# Altium schematic symbol library Esperto.SchLib: 22 symbols
Pins are listed as number, name and electrical type; pins without a type are passive.

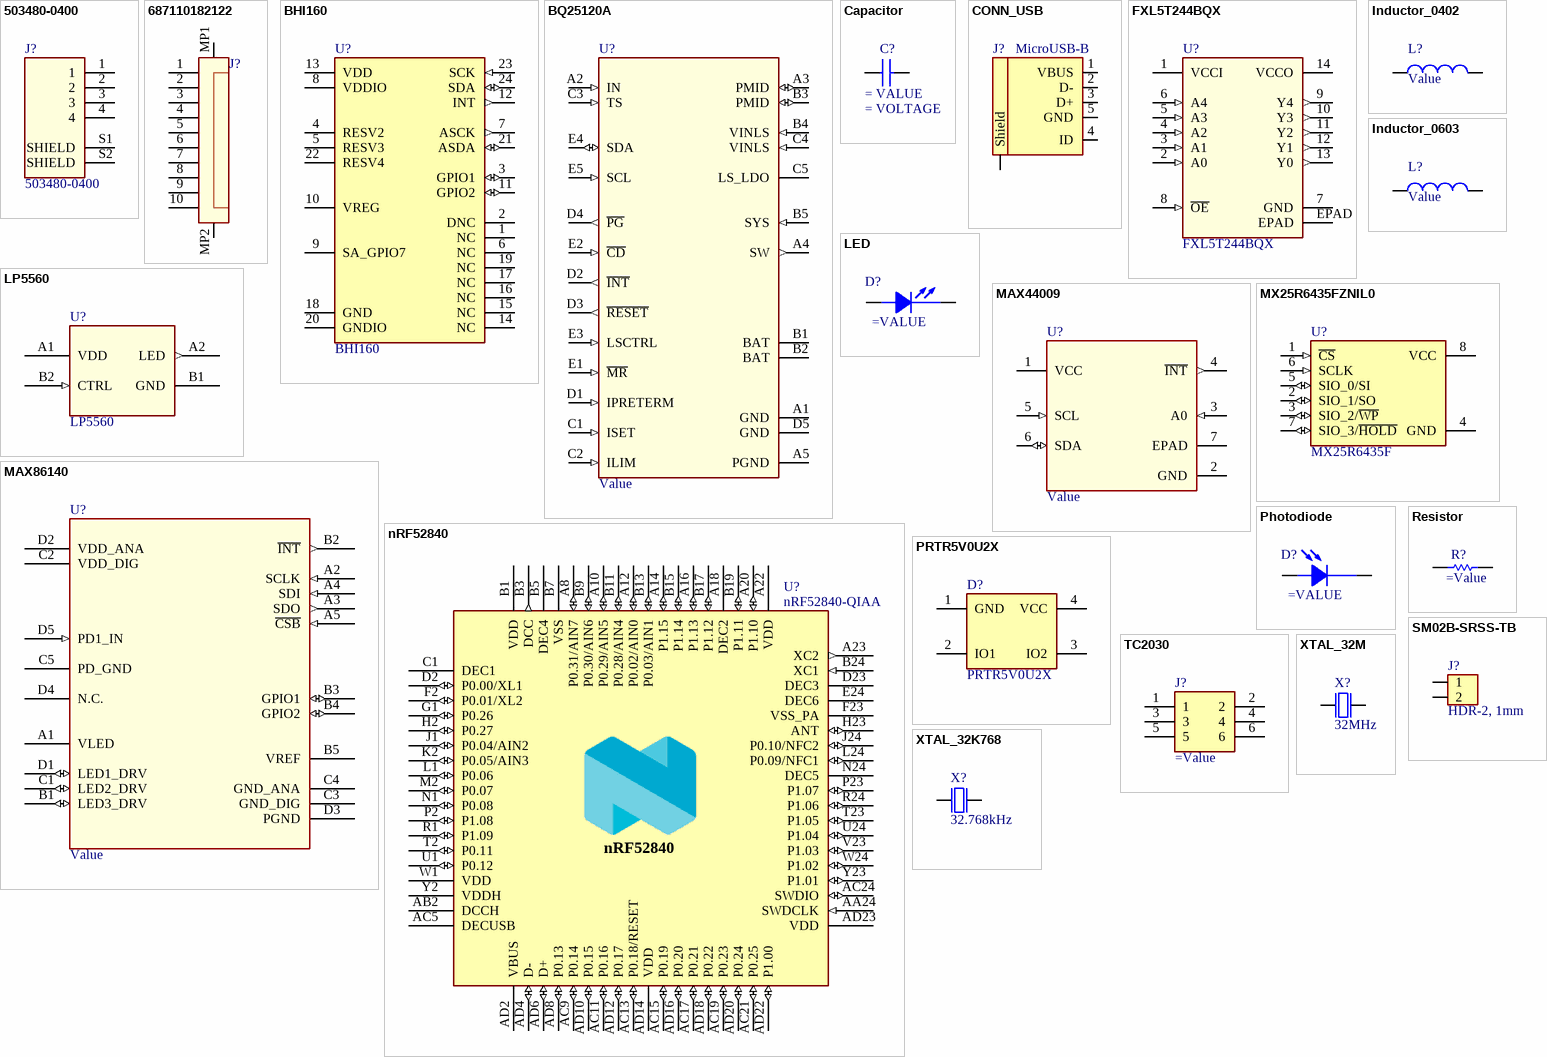
[diagram p0: symbols 503480-0400 to XTAL_32M]

## 503480-0400
designator J?
0.50mm Pitch Easy-On; MP: 5034800400; MF: Molex; Package: None; SnapEDA_Link: https://www.snapeda.com/parts/5034800400/Molex/view-part/?ref=snap; Digi-Key_Part_Number: WM1386CT-ND; Digi-Key_Purchase_URL: https://www.digikey.ca/product-detail/en/molex/5034800400/WM1386CT-ND/2356640?utm_source=snapeda&utm_medium=aggregator&utm_campaign=symbol; Value: *
footprint 503480-0400
pins: 1, 2, 3, 4, S1 SHIELD, S2 SHIELD

## 687110182122
designator J?
SMT ZIF Connectors WR-FPC, Horizontal, Back Locking Dual Contact, pitch 0.5 mm, 10 pins; Part Number: 687110182122; Rated Current: 0.5 A; Contact Resistance: 30 mOhm; Withstanding Voltage: 250 VAC; Working Voltage: 50 VAC; Pin Number: 10; Pitch: 0.5 mm; ComponentLink1Description: Manufacturer; ComponentLink1URL: http://www.we-online.de; ComponentLink2Description: Datasheet; ComponentLink2URL: https://katalog.we-online.de/em/datasheet/687110182122.pdf; Published Date: August 2018; Publisher: Wurth Elektronik; Operating Temperature: -55 to 85 degC; Packaging: Tape and Reel; Mounting Technology: SMT; Orientation: Horizontal; Contact Design: Back Locking Dual Contact
footprint 687110182122 (ZIF Connectors, Horizontal, Dual Contact Back Locking, pitch 0.5mm, 10p)
pins: 1, 2, 3, 4, 5, 6, 7, 8, 9, 10, MP1, MP2

## BHI160
designator U?
Ultra low-power sensor hub incl. integrated IMU; Part_Type: IC; Provided By: BOSCH; Package: *; ComponentLink1Description: *; ComponentLink1URL: *; Manufacturer_Part_Number: BHI160
footprint BHI160
pins: 1 NC, 2 DNC, 3 GPIO1 (io), 4 RESV2, 5 RESV3, 6 NC, 7 ASCK (out), 8 VDDIO (power), 9 SA_GPIO7, 10 VREG (power), 11 GPIO2 (io), 12 INT (out), 13 VDD (power), 14 NC, 15 NC, 16 NC, 17 NC, 18 GND (power), 19 NC, 20 GNDIO (power), 21 ASDA (io), 22 RESV4, 23 SCK (in), 24 SDA (io)

## BQ25120A
designator U?, comment Value
Battery Charge Management Solution; Manufacturer_Part_Number: BQ25120YFPR; Alternate_PartNumber: BQ25120YFPT; Vendor: Texas Instruments; Built_By: Texas_Instrument_Team; CompType: IC; Copyright: Copyright (C) 2018 Accelerated Designs. All rights reserved; RefDes: RefDes; Type: DEV; Value: Value; Application_BuildNumber: *; PartNumber: BQ25120YFPR; PackageReference: YFP0025BABD; MountType: SMT; RoHS: Y; Manufacturer: Texas Instruments
footprint BQ25120A
pins: A1 GND (power), A2 IN (in), A3 PMID (io), A4 SW (out), A5 PGND (power), B1 BAT (power), B2 BAT (power), B3 PMID (io), B4 VINLS (in), B5 SYS (in), C1 ISET (in), C2 ILIM (in), C3 TS (in), C4 VINLS (in), C5 LS_LDO (power), D1 IPRETERM (in), D2 ~{INT} (out), D3 ~{RESET} (out), D4 ~{PG} (out), D5 GND (power), E1 ~{MR} (in), E2 ~{CD} (in), E3 LSCTRL (in), E4 SDA (io), E5 SCL (in)

## Capacitor
designator C?
Capacitor; VALUE: = VALUE; VOLTAGE: = VOLTAGE
footprint CC_1005_0402_N (Chip Capacitor, 2-Leads, Body 1.0x0.5mm, IPC Medium Density)
pins: 1, 2

## CONN_USB
designator J?, comment MicroUSB-B
MicroUSB-B-SMT; Part Number: USB-Micro-B-RA-SMD-PiP; Manufacturer: Allen Creations Corp.; Manufacturer Part Number: AJU55-BS2111-L; 2nd source part number: 609-4616-1-ND; Part number IPS: 00000007790; Artikkelnr Noca: 55029020; Artikkelnr Simpro: N.A.; Datasheet: \\hizz\pro\app9717\Datasheet\connectores\Allen Creations Corp\AJU-211.pdf; Footprint Doc: USB-Micro-B-RA-SMD-PiP; LatestRevisionDate: 2016-04-21; Pin Count: 5; Publisher: Nordic Semiconductor; Published: 2014-10-07; Value: MicroUSB-B; Note: *; Supplier: Cabcon; Supplier part number: AJU55-BS2111-L; 2nd source Supplier: Digi-Key
footprint CONN_USB_MICRO_B
pins: 1 VBUS (power), 2 D-, 3 D+, 4 ID, 5 GND (power), 6 Shield (power)

## FXL5T244BQX
designator U?
Voltage Level Translator Unidirectional 1 Circuit 5 Channel; MF: ON Semiconductor; MP: FXLA108BQX; Package: DQFN-20 ON Semiconductor; Digi-Key_Purchase_URL: https://www.digikey.ca/product-detail/en/on-semiconductor/FXLA108BQX/FXLA108BQXCT-ND/2051660?utm_source=snapeda&utm_medium=aggregator&utm_campaign=symbol; Digi-Key_Part_Number: FXLA108BQXCT-ND; SnapEDA_Link: https://www.snapeda.com/parts/FXLA108BQX/ON%20Semiconductor/view-part/?ref=snap; Value: *
footprint FXL5T244BQX
pins: 1 VCCI (power), 2 A0 (in), 3 A1 (in), 4 A2 (in), 5 A3 (in), 6 A4 (in), 7 GND (power), 8 ~{OE} (in), 9 Y4 (out), 10 Y3 (out), 11 Y2 (out), 12 Y1 (out), 13 Y0 (out), 14 VCCO (power), EPAD (power)

## Inductor_0402
designator L?, comment Value
Inductor; VALUE: Value
footprint RC_1005_0402_N (Chip Resistor, 2-Leads, Body 1.0x0.5mm, IPC Medium Density)
pins: 1, 2

## Inductor_0603
designator L?, comment Value
Inductor; VALUE: Value
footprint IND_1608_0603_N (Chip Resistor, 2-Leads, Body 1.5x0.8mm, IPC Medium Density)
pins: 1, 2

## LED
designator D?
Single LED
footprint LED_GREEN_0603 (LED,Chip;1.60mm L X 0.80mm W X 0.45mm H)
pins: A Anode, K Cathode

## LP5560
designator U?
Programmable Single-LED Driver; Manufacturer_Part_Number: LP5522TM/NOPB; Vendor: Texas Instruments; Built_By: EMA_UL_Team; Copyright: Copyright (C) 2018 Accelerated Designs. All rights reserved; RefDes: RefDes; Type: DEV; Value: Value
footprint LP5560
pins: A1 VDD (power), A2 LED (out), B1 GND (power), B2 CTRL (in)

## MAX44009
designator U?, comment Value
Ambient Light Sensor; Manufacturer_Part_Number: MAX44009EDT+T; Built_By: EMA_UL_Team; Vendor: Maxim Integrated Products; Copyright: Copyright (C) 2018 Accelerated Designs. All rights reserved; RefDes: RefDes; Type: DEV; Value: Value
footprint MAX44009
pins: 1 VCC (power), 2 GND (power), 3 A0 (in), 4 ~{INT} (out), 5 SCL (in), 6 SDA (io), 7 EPAD (power)

## MAX86140
designator U?, comment Value
Optical Pulse Oximeter and / Heart-Rate Sensor; Manufacturer_Part_Number: MAX86140ENP+; Built_By: EMA_UL_Team; Vendor: Maxim Integrated Products; Copyright: Copyright (C) 2018 Accelerated Designs. All rights reserved; RefDes: RefDes; Type: DEV; Value: Value
footprint MAX86140
pins: A1 VLED, A2 SCLK (in), A3 SDO (out), A4 SDI (in), A5 ~{CSB} (in), B1 LED3_DRV (io), B2 ~{INT} (out), B3 GPIO1 (io), B4 GPIO2 (io), B5 VREF (power), C1 LED2_DRV (io), C2 VDD_DIG (power), C3 GND_DIG, C4 GND_ANA, C5 PD_GND, D1 LED1_DRV (io), D2 VDD_ANA (power), D3 PGND, D4 N.C., D5 PD1_IN (in)

## MX25R6435FZNIL0
designator U?, comment MX25R6435F
Ultra low power, 64M-bit, serial multi I/O flash memory; Part Number: MX25R6435FZNIL0; Manufacturer: Macronix; Artikkelnr Noca: 15020015; Artikkelnr Simpro: N.A.; Manufacturer Part Number: MX25R6435FZNIL0; Datasheet: http://www.macronix.com/Lists/Datasheet/Attachments/3881/MX25R6435F,%20Wide%20Range,%2064Mb,%20v1.3.pdf; Footprint Doc: WSON-8; LatestRevisionDate: 2016-06-29; Pin Count: 8; Publisher: Nordic Semiconductor; Published: 2016-06-29; Value: MX25R6435F; Note: *; Supplier: Future; Supplier part number: MX25R6435FZNIL0; 2nd source Supplier: Arrow; 2nd source part number: MX25R6435FZNIL0
footprint MX25R6435FZNIL0
pins: 1 ~{CS} (in), 2 SIO_1/SO (io), 3 SIO_2/~{WP} (io), 4 GND, 5 SIO_0/SI (io), 6 SCLK (in), 7 SIO_3/~{HOLD} (io), 8 VCC, 9 GND hidden to GND

## nRF52840
designator U?, comment nRF52840-QIAA
Multi-protocol Bluetooth Low Energy, IEEE 802.15.4, ANT and 2.4GHz proprietary system-on-chip; Part Number: nRF52840-QIAAC0; Manufacturer: Nordic Semiconductor; Artikkelnr Noca: N.A.; LatestRevisionDate: 2017-12-06; Pin Count: 73; Publisher: Nordic Semiconductor; Published: 2017-08-21; Value: nRF52840-QIAA; Note: *; Footprint Doc: AQFN-73; Manufacturer Part Number: nRF52840-QIAAC0; Supplier: Nordic Semiconductor; Supplier part number: nRF52840-QIAAC0; 2nd source Supplier: *; 2nd source part number: *; Artikkelnr Simpro: N.A.; Part number IPS: N.A.; ComponentLink1Description: Datasheet; ComponentLink1URL: *; ComponentLink2Description: Supplier link; ComponentLink2URL: *; HelpURL: *
footprint nRF52840
pins: 74 GND (power) hidden to GND, A8 P0.31/AIN7 (io), A10 P0.29/AIN5 (io), A12 P0.02/AIN0 (io), A14 P1.15 (io), A16 P1.13 (io), A18 DEC2 (power), A20 P1.10 (io), A22 VDD (power), A23 XC2 (out), AA24 SWDCLK (in), AB2 DCCH (power), AC5 DECUSB (power), AC9 P0.14 (io), AC11 P0.16 (io), AC13 P0.18/RESET (io), AC15 P0.19 (io), AC17 P0.21 (io), AC19 P0.23 (io), AC21 P0.25 (io), AC24 SWDIO (io), AD2 VBUS (power), AD4 D- (io), AD6 D+ (io), AD8 P0.13 (io), AD10 P0.15 (io), AD12 P0.17 (io), AD14 VDD (power), AD16 P0.20 (io), AD18 P0.22 (io), AD20 P0.24 (io), AD22 P1.00 (io), AD23 VDD (power), B1 VDD (power), B3 DCC (out), B5 DEC4 (power), B7 VSS (power), B9 P0.30/AIN6 (io), B11 P0.28/AIN4 (io), B13 P0.03/AIN1 (io), B15 P1.14 (io), B17 P1.12 (io), B19 P1.11 (io), B24 XC1 (in), C1 DEC1 (power), D2 P0.00/XL1 (io), D23 DEC3 (power), E24 DEC6 (power), F2 P0.01/XL2 (io), F23 VSS_PA (power), G1 P0.26 (io), H2 P0.27 (io), H23 ANT (io), J1 P0.04/AIN2 (io), J24 P0.10/NFC2 (io), K2 P0.05/AIN3 (io), L1 P0.06 (io), L24 P0.09/NFC1 (io), M2 P0.07 (io), N1 P0.08 (io), N24 DEC5 (power), P2 P1.08 (io), P23 P1.07 (io), R1 P1.09 (io), R24 P1.06 (io), T2 P0.11 (io), T23 P1.05 (io), U1 P0.12 (io), U24 P1.04 (io), V23 P1.03 (io), W1 VDD (power), W24 P1.02 (io), Y2 VDDH (power), Y23 P1.01 (io)

## Photodiode
designator D?
Photodiode
footprint VEMD8080
pins: A Anode, K Cathode

## PRTR5V0U2X
designator D?
Ultra low capacitance double rail-to-rail ESD protection diode; Manufacturer: NXP; 2nd source part number: 152-4157; Artikkelnr Noca: 10069015; Artikkelnr Simpro: N.A.; Part Number: PRTR5V0U2X; Manufacturer Part Number: PRTR5V0U2X; Datasheet: http://www.farnell.com/datasheets/109718.pdf; LatestRevisionDate: 2012-06-11; Publisher: Nordic Semiconductor; Published: 2012-06-11; Value: PRTR5V0U2X; Note: *; Supplier: Digi-Key; Supplier part number: 568-4140-1-ND; 2nd source Supplier: Farnell; Footprint Doc: SOT-143B
footprint PRTR5V0U2X
pins: 1 GND, 2 IO1, 3 IO2, 4 VCC

## Resistor
designator R?
Resistor; Value: =Value
footprint RC_1005_0402_N (Chip Resistor, 2-Leads, Body 1.0x0.5mm, IPC Medium Density)
pins: 1, 2

## SM02B-SRSS-TB
designator J?, comment HDR-2, 1mm
1.0mm pitch connector side entry SMD; Part Number: SM02B-SRSS-TB; Manufacturer: JST; Manufacturer Part Number: SM02B-SRSS-TB(LF)(SN); Part number IPS: 00000007791; Note: JST, Header; Artikkelnr Noca: 55010030; Artikkelnr Simpro: N.A.; Datasheet: http://www.jst-mfg.com/product/pdf/eng/eSH.pdf; Footprint Doc: SM02B-SRSS-TB; LatestRevisionDate: 2016-06-20; Pin Count: 2; Publisher: Nordic Semiconductor; Published: 2016-06-20; Value: HDR-2, 1mm; Supplier: Digi-Key; Supplier part number: 455-1802-1-ND; 2nd source Supplier: *; 2nd source part number: *
footprint SM02B-SRSS-TB
pins: 1, 2

## TC2030
designator J?  (no BOM)
Debug port
footprint CONN_TC2030 (Tag-Connect TC2030)
pins: 1, 2, 3, 4, 5, 6

## XTAL_32K768
designator X?, comment 32.768kHz
XTAL SMD 2012, 32.768kHz, 9pF, ±20ppm; Part Number: XTAL_SMD2012_32.768kHz_9pF_Seiko; Manufacturer: Seiko; Manufacturer Part Number: SC20S-9.0PF20PPM; Part number IPS: 80000001425; Note: XTAL SMD 32.768kHz; Artikkelnr Noca: N.A.; LatestRevisionDate: 2017-11-09; Pin Count: 2; Publisher: Nordic Semiconductor; Published: 2015-10-15; Value: 32.768kHz; Supplier: *; Supplier part number: *; 2nd source Supplier: *; 2nd source part number: *; Footprint Doc: XTAL_2012; Artikkelnr Simpro: N.A.; ComponentLink1Description: Datasheet; ComponentLink1URL: *; ComponentLink2Description: Supplier link; ComponentLink2URL: *; HelpURL: http://www.sii.co.jp/en/quartz/files/2013/03/file_PRODUCT_MASTER_50811_GRAPHIC03.pdf
footprint XTAL_32K768
pins: 1 inp, 2 out

## XTAL_32M
designator X?, comment 32MHz
XTAL SMD 2016, 32MHz, Cl=8pF, Tol: ±10ppm, Stab: ±10ppm; Part Number: XTAL_SMD2016_32MHz_8pF_Murata; Manufacturer: Murata; Manufacturer Part Number: XRCGB32M000F1H01R0; Part number IPS: 80000001424; Note: XTAL SMD 32.000MHz; Artikkelnr Noca: N.A.; LatestRevisionDate: 2017-11-09; Pin Count: 4; Publisher: Nordic Semiconductor; Published: 2016-10-26; Value: 32MHz; Supplier: *; Supplier part number: *; 2nd source Supplier: *; 2nd source part number: *; Footprint Doc: XTAL_2016; Artikkelnr Simpro: N.A.; ComponentLink1Description: Datasheet; ComponentLink1URL: *; ComponentLink2Description: Supplier link; ComponentLink2URL: *; HelpURL: http://www.murata.com/en-global/products/productdetail.aspx?cate=cgsubCrystalUnits&partno=XRCGB32M000F1H01R0
footprint XTAL_32M
pins: 1 inp, 2 GND hidden to GND, 3 out, 4 GND hidden to GND